# Altium footprint library Component Library.PcbLib: 10 footprints
Each footprint in its own frame and in the unit in brackets; x right, y up, seen from the top. Pads: shape width x height; smd on the part's side, far side on the other; paste and mask are expansions set on the pad; w line width, h text height; cw(c..) or ccw(c..) is an arc to the next point about the centre after c.
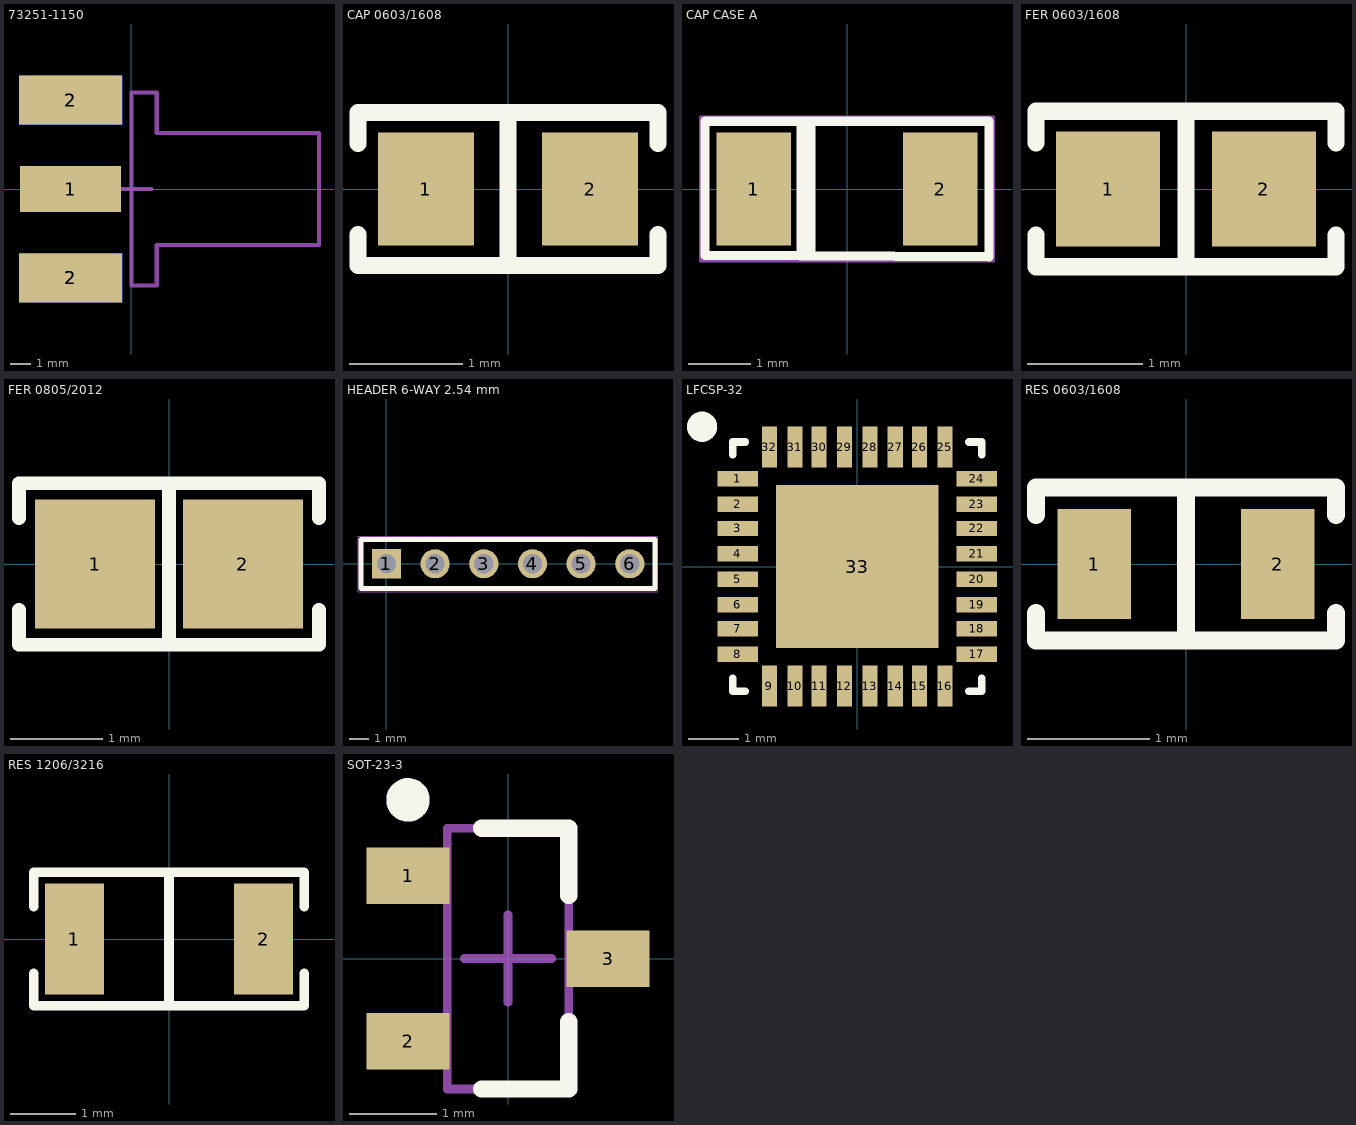
[diagram p0: the footprints below, top view; thin cyan lines are the x and y axes]

## 73251-1150 [mm]
pads (5):
  rect 5x2.29 smd: 1(-3,0)
  rect 5.08x2.415 smd: 2(-3,-4.383) 2(-3,4.383)
  rect 5.08x2.415 smd far side: 2(-3,-4.383) 2(-3,4.383)
Mechanical 1:
  lines w0.2: 0,-4.75 1.25,-4.75 1.25,-2.75 9.25,-2.75 9.25,2.75 1.25,2.75 1.25,4.75 0,4.75 0,-4.75
Mechanical 15:
  lines w0.2: -1,0 1,0 ; 0,-1 0,1
3D body "MOLEX SD-73251-115.stp": height 4.36, standoff -3.56, extent -5.137,-4.75 9.137,4.775

## CAP 0603/1608 [mm] "Chip Capacitor, 2-Leads, Body 1.60x0.80mm, IPC Medium Density"
height 0.89
pads (2):
  rect 0.85x1 smd: 1(-0.725,0) 2(0.725,0)
Top Overlay:
  lines w0.15: -1.325,-0.4 -1.325,-0.675 1.325,-0.675 1.325,-0.4 ; -1.325,0.4 -1.325,0.675 1.325,0.675 1.325,0.4 ; 0,-0.675 0,0.675
3D body "0603 cap.STEP": height 0.82, standoff 0, extent -0.8,-0.412 0.8,0.412

## CAP CASE A [mm] "Tantalum Capacitor CASE A (3216)"
pads (2):
  rect 1.2x1.82 smd: 1(-1.505,0) 2(1.505,0)
Top Overlay:
  lines w0.1: -0.737,-1.067 -0.727,-1.076
  lines w0.15: -2.286,-1.067 -2.286,1.092 2.286,1.092 2.286,-1.092 -2.286,-1.067
  lines w0.3: -0.66,-0.991 -0.66,0.991
Mechanical 15:
  lines w0.05: -2.36,-1.16 2.36,-1.16 2.36,1.16 -2.36,1.16 -2.36,-1.16
3D body "T491A105K016AT.step": height 1.81, standoff 0, extent -1.7,-0.9 1.7,0.9

## FER 0603/1608 [mm] "Chip Ferrite, 2-Leads, Body 1.60x0.80mm, IPC Medium Density"
height 0.89
pads (2):
  rect 0.9x1 smd: 1(-0.675,0) 2(0.675,0)
Top Overlay:
  lines w0.15: -1.3,-0.4 -1.3,-0.675 1.3,-0.675 1.3,-0.4 ; -1.3,0.4 -1.3,0.675 1.3,0.675 1.3,0.4 ; 0,-0.675 0,0.675
3D body "FER 0603.STEP": height 0.82, standoff 0, extent -0.8,-0.412 0.8,0.412

## FER 0805/2012 [mm] "Chip Ferrite, 2-Leads, Body 2.00x1.20mm, IPC Medium Density"
height 1.15
pads (2):
  rect 1.3x1.4 smd: 1(-0.8,0) 2(0.8,0)
Top Overlay:
  lines w0.15: -1.625,-0.5 -1.625,-0.875 1.625,-0.875 1.625,-0.5 ; -1.625,0.5 -1.625,0.875 1.625,0.875 1.625,0.5 ; 0,-0.875 0,0.875
3D body "FER 0805.STEP": height 1.26, standoff -0.02, extent -1,-0.637 1,0.637

## HEADER 6-WAY 2.54 mm [mil]
pads (6):
  rect 60x60 hole 39.37: 1(0,0)
  round 60 hole 39.37: 2(100,0) 3(200,0) 4(300,0) 5(400,0) 6(500,0)
Top Overlay:
  lines w10: -52.56,-51.18 -52.56,50.01 552,50.01 552,-51.18 -52.56,-51.18
Mechanical 13:
  lines w3.94: -51.97,-49.99 552,-49.99 552,50.01 -51.97,50.01 -51.97,-49.99
Mechanical 15:
  lines w1.97: -58.46,-57.09 558,-57.09 558,56.1 -58.46,56.1 -58.46,-57.09
3D body: height 50, standoff -50, extent 373,-110 373,-110
3D body "65787.stp": height 337.22, standoff -117.11, extent -49.97,-49.99 550.03,50.01

## LFCSP-32 [mil] "5x5mm"
pads (33):
  rect 32x12 smd: 1(-94,69) 2(-94,49) 3(-94,30) 4(-94,10) 5(-94,-10) 6(-94,-30) 7(-94,-49) 8(-94,-69) 17(94,-69) 18(94,-49) 19(94,-30) 20(94,-10) 21(94,10) 22(94,30) 23(94,49) 24(94,69)
  rect 12x32 smd: 9(-69,-94) 10(-49,-94) 11(-30,-94) 12(-10,-94) 13(10,-94) 14(30,-94) 15(49,-94) 16(69,-94) 25(69,94) 26(49,94) 27(30,94) 28(10,94) 29(-10,94) 30(-30,94) 31(-49,94) 32(-69,94)
  rect 128x128 smd: 33(0,0)
Top Overlay:
  circle w15.75: c-122,110 r4
  lines w6: -98,-88 -98,-98 -88,-98 ; -98,88 -98,98 -88,98 ; 88,-98 98,-98 98,-88 ; 88,98 98,98 98,88
3D body "LFCSP-32.step": height 35.04, standoff -1.38, extent -99.02,-98.83 98.64,98.83

## RES 0603/1608 [mm] "Chip Resistor, 2-Leads, Body 1,60x0,80mm, IPC Medium Density"
height 0.45
pads (2):
  rect 0.6x0.9 smd: 1(-0.75,0) 2(0.75,0)
Top Overlay:
  lines w0.15: -1.225,-0.4 -1.225,-0.625 1.225,-0.625 1.225,-0.4 ; -1.225,0.4 -1.225,0.625 1.225,0.625 1.225,0.4 ; 0,-0.625 0,0.625
3D body "RESC1608X50N EIA 0603.step": height 0.5, standoff 0, extent -0.8,-0.4 0.8,0.4

## RES 1206/3216 [mm] "Chip Resistor, 2-Leads, Body 3,20x1,60mm, IPC Medium Density"
height 0.6
pads (2):
  rect 0.9x1.7 smd: 1(-1.45,0) 2(1.45,0)
Top Overlay:
  lines w0.15: -2.075,-0.525 -2.075,-1.025 2.075,-1.025 2.075,-0.525 ; -2.075,0.5 -2.075,1.025 2.075,1.025 2.075,0.5 ; 0,-1.025 0,1.025
3D body "RESC3216X60N EIA 1206.step": height 0.6, standoff 0, extent -1.6,-0.8 1.6,0.8

## SOT-23-3 [mm] "SOT23, 3-Leads, Body 2.90x2.40mm, Pitch 0.95mm, IPC Medium Density"
height 1.35
pads (3):
  rect 0.95x0.65 smd: 1(-1.15,0.95) 2(-1.15,-0.95) 3(1.15,0)
Top Overlay:
  circle w0.25: c-1.15,1.825 r0.125
  lines w0.2: -0.3,-1.5 0.7,-1.5 0.7,-0.725 ; -0.3,1.5 0.7,1.5 0.7,0.725
Mechanical 13:
  lines w0.1: -0.7,-1.5 0.7,-1.5 0.7,1.5 -0.7,1.5 -0.7,-1.5
Mechanical 15:
  lines w0.1: -0.5,0 0.5,0 ; 0,-0.5 0,0.5
3D body "sot-23-3.STEP": height 1.5, standoff 0, extent -1.41,-1.45 1.411,1.45